# Altium schematic symbol library ACROME_Lib.SchLib: 89 symbols (part 1 of 3)
Pins are listed as number, name and electrical type; pins without a type are passive.

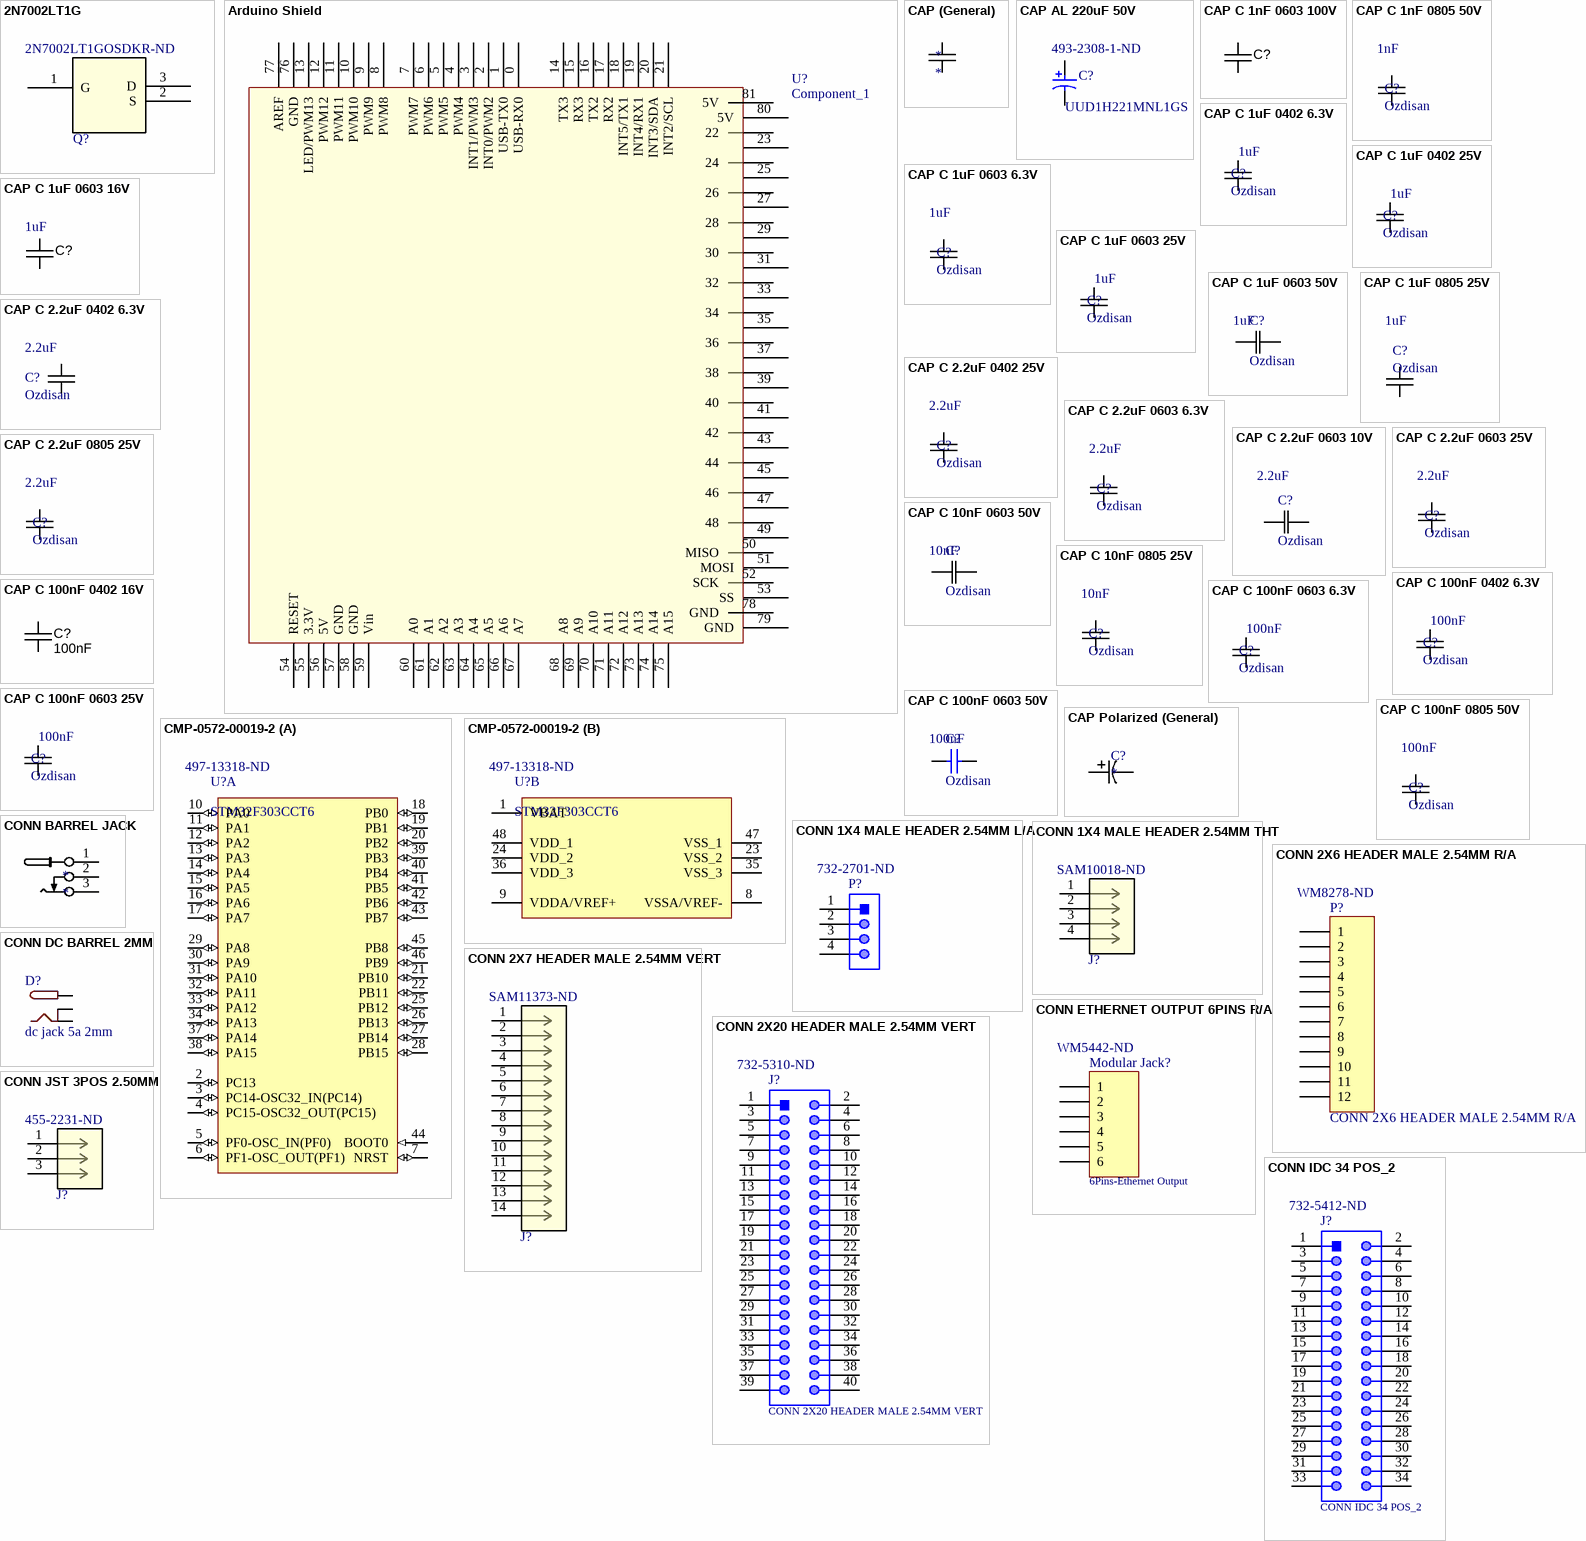
[diagram p0: symbols 2N7002LT1G to CONN JST 3POS 2.50MM]

## 2N7002LT1G
designator Q?  Supplier Part Number 1: 2N7002LT1GOSDKR-ND  (hidden comment: 2N7002LT1G)
Trans MOSFET N-CH 60V 0.115A 3-Pin SOT-23 T/R; Vendor: ON Semiconductor; Built_By: EMA_UL_Team; Type: DEV; Gate to Source Voltage (Vgs): 20V; Continuous Drain Current (ID): 115mA; Turn-Off Delay Time: 40ns; Turn-On Delay Time: 20ns; Rds On Max: 7.5R; Input Capacitance: 50pF; Nominal Vgs: 2.5V; Number of Elements: 1; Max Power Dissipation: 225mW; Element Configuration: Single; Power Dissipation: 300mW; Manufacturer_Part_Number: 2N7002LT1G; Copyright: Copyright (C) 2018 Accelerated Designs. All rights reserved; RefDes: RefDes; Value: Value; Supplier 1: Digi-Key; Manufacturer: ON Semiconductor; Manufacturer Part Number: 2N7002LT1G; RoHS: Yes; Category: MOSFETs; Stock 1: 959799; Pricing 1: 1=0,18000, 10=0,16400, 25=0,15640, 100=0,06880, 250=0,06600, 500=0,05400, 1000=0,03750 (USD); Case/Package: SOT-23-3; Number of Pins: 3; Contact Plating: Tin,Matte; Min Operating Temperature: -55°C; Max Operating Temperature: 150°C; Package Quantity: 1; On-State Resistance: 7.5R; Packaging: Tape and Reel; Drain to Source Voltage (Vdss): 60V; Drain to Source Breakdown Voltage: 60V; Drain to Source Resistance: 7.5R; Threshold Voltage: 2.5V; Voltage Rating (DC): 60V; Current Rating: 115mA; Number of Channels: 1; Length: 3.04mm; Height: 1.01mm; Width: 1.4mm; Radiation Hardening: No; Lead Free: Lead Free; Halogen Free: Halogen Free; REACH SVHC: No SVHC; ComponentLink1URL: https://datasheet.ciiva.com/936/2n7002l-d-936784.pdf?src-supplier=Digi-Key; ComponentLink1Description: https://datasheet.ciiva.com/936/2n7002l-d-936784.pdf?src-supplier=Digi-Key; ComponentLink2URL: https://datasheet.ciiva.com/22749/1747988-22749570.pdf?src-supplier=Element14; ComponentLink2Description: https://datasheet.ciiva.com/22749/1747988-22749570.pdf?src-supplier=Element14; ComponentLink3URL: https://datasheet.ciiva.com/1188/97418-1188470.pdf?src-supplier=Element14; ComponentLink3Description: https://datasheet.ciiva.com/1188/97418-1188470.pdf?src-supplier=Element14; ComponentLink4URL: https://datasheet.ciiva.com/936/2n7002l-d-936786.pdf?src-supplier=Digi-Key; ComponentLink4Description: https://datasheet.ciiva.com/936/2n7002l-d-936786.pdf?src-supplier=Digi-Key; ComponentLink5URL: https://datasheet.ciiva.com/1254/1747988-1254500.pdf?src-supplier=Newark; ComponentLink5Description: https://datasheet.ciiva.com/1254/1747988-1254500.pdf?src-supplier=Newark; ComponentLink6URL: https://datasheet.ciiva.com/936/2n7002l-d-936785.pdf?src-supplier=Digi-Key; ComponentLink6Description: https://datasheet.ciiva.com/936/2n7002l-d-936785.pdf?src-supplier=Digi-Key; ComponentLink7URL: https://datasheet.ciiva.com/24157/2n7002l-d-24157398.pdf?src-supplier=Future+Electronics; ComponentLink7Description: https://datasheet.ciiva.com/24157/2n7002l-d-24157398.pdf?src-supplier=Future+Electronics; ComponentLink8URL: https://datasheet.ciiva.com/1188/97418-1188471.pdf?src-supplier=Element14; ComponentLink8Description: https://datasheet.ciiva.com/1188/97418-1188471.pdf?src-supplier=Element14; ComponentLink9URL: https://datasheet.ciiva.com/8114/2n7002l-d-8114823.pdf?src-supplier=Avnet; ComponentLink9Description: https://datasheet.ciiva.com/8114/2n7002l-d-8114823.pdf?src-supplier=Avnet; ComponentLink10URL: https://datasheet.ciiva.com/3304/2n7002l-d-3304393.pdf?src-supplier=Avnet; ComponentLink10Description: https://datasheet.ciiva.com/3304/2n7002l-d-3304393.pdf?src-supplier=Avnet; ComponentLink11URL: https://datasheet.ciiva.com/26146/2n7002l-d-26146173.pdf?src-supplier=Avnet+Europe; ComponentLink11Description: https://datasheet.ciiva.com/26146/2n7002l-d-26146173.pdf?src-supplier=Avnet+Europe; ComponentLink12URL: https://datasheet.ciiva.com/16542/2n7002l-d-16542607.pdf?src-supplier=Avnet+Asia; ComponentLink12Description: https://datasheet.ciiva.com/16542/2n7002l-d-16542607.pdf?src-supplier=Avnet+Asia
footprint SOT-23
pins: 1 G, 2 S, 3 D

## Arduino Shield
designator U?, comment Component_1
footprint PCBComponent_1 (Footprint not found)
pins: 0 USB-RX0, 1 USB-TX0, 2 INT0/PWM2, 3 INT1/PWM3, 4 PWM4, 5 PWM5, 6 PWM6, 7 PWM7, 8 PWM8, 9 PWM9, 10 PWM10, 11 PWM11, 12 PWM12, 13 LED/PWM13, 14 TX3, 15 RX3, 16 TX2, 17 RX2, 18 INT5/TX1, 19 INT4/RX1, 20 INT3/SDA, 21 INT2/SCL, 22, 23, 24, 25, 26, 27, 28, 29, 30, 31, 32, 33, 34, 35, 36, 37, 38, 39, 40, 41, 42, 43, 44, 45, 46, 47, 48, 49, 50 MISO, 51 MOSI, 52 SCK, 53 SS, 54 RESET, 55 3.3V, 56 5V, 57 GND, 58 GND, 59 Vin, 60 A0, 61 A1, 62 A2, 63 A3, 64 A4, 65 A5, 66 A6, 67 A7, 68 A8, 69 A9, 70 A10, 71 A11, 72 A12, 73 A13, 74 A14, 75 A15, 76 GND, 77 AREF, 78 GND, 79 GND, 80 5V, 81 5V

## CAP (General)
designator *
pins: 1, 2

## CAP AL 220uF 50V
designator C?, comment UUD1H221MNL1GS  Supplier Part Number 1: 493-2308-1-ND
NICHICON   UUD1H221MNL1GS   ALUMINUM ELECTROLYTIC CAPACITOR 220UF 50V 220%, SMD, FULL REEL; Packing: Dia382mm Reel; Endurance Time: 5000 h; Rated Ripple Current (at 100kHz): 670 mA; Tolerance Rated Capacitance: -20 to 20%; Impedance: 0.18 Ohm; Dielectric Material: Aluminium; Tolerance: 20%; Ripple Current: 670mA; Leakage Current: 3uA; Life (Hours): 5000Hour; Dissipation Factor: 0.14%; Lead Diameter: 1.1mm; Rated Capacitance: 220 uF; RoHS: TRUE; ComponentLink2URL: http://products.nichicon.co.jp/en/pdf/XJA043/e-ud.pdf; PartNumber: UUD1H221MNL1GS; ComponentLink3URL: http://products.nichicon.co.jp/en/pdf/XJA043/e-ud.pdf; Mounting Technology: Surface Mount; ComponentLink1Description: Manufacturer URL; ComponentLink3Description: Package Specification; Manufacturer: Nichicon; ComponentLink1URL: http://www.nichicon.co.jp/; Diameter: 10 mm; PackageDescription: 2-Pin Surface Mount Device, Diameter 10 mm, Height 10 mm, Pitch 8 mm; PackageReference: CAPAE-D10H10; ComponentLink2Description: Datasheet; Rated Voltage: 50 V; DatasheetVersion: 08/2012; Length: 10 mm; Supplier 1: Digi-Key; Manufacturer Part Number: UUD1H221MNL1GS; Category: Aluminum Electrolytic Capacitors; Stock 1: 56411; Pricing 1: 1=0,88000, 10=0,67200, 100=0,48090 (USD); Case/Package: Radial; Number of Pins: 2; Min Operating Temperature: -55°C; Max Operating Temperature: 105°C; Capacitance: 220uF; Termination: SMD/SMT; Voltage: 50V; Packaging: Tape and Reel; Voltage Rating: 50V; Ripple Current (AC): 670mA; Package Quantity: 500; Voltage Rating (DC): 50V; Height: 10mm; Height - Seated (Max): 0.394inch; Lead Pitch: 4.5mm; Radiation Hardening: No; Lead Free: Lead Free; REACH SVHC: Unknown; ComponentLink4URL: https://datasheet.ciiva.com/11781/0900766b80fa39e7-11781899.pdf?src-supplier=RSComponents; ComponentLink4Description: https://datasheet.ciiva.com/11781/0900766b80fa39e7-11781899.pdf?src-supplier=RSComponents; ComponentLink5URL: https://datasheet.ciiva.com/98/e-ud-98289.pdf?src-supplier=Digi-Key; ComponentLink5Description: https://datasheet.ciiva.com/98/e-ud-98289.pdf?src-supplier=Digi-Key; ComponentLink6URL: https://datasheet.ciiva.com/98/e-ud-98290.pdf?src-supplier=Digi-Key; ComponentLink6Description: https://datasheet.ciiva.com/98/e-ud-98290.pdf?src-supplier=Digi-Key; ComponentLink7URL: https://datasheet.ciiva.com/98/e-ud-98291.pdf?src-supplier=Digi-Key; ComponentLink7Description: https://datasheet.ciiva.com/98/e-ud-98291.pdf?src-supplier=Digi-Key; ComponentLink8URL: https://datasheet.ciiva.com/5360/e-ud-5360438.pdf?src-supplier=Mouser; ComponentLink8Description: https://datasheet.ciiva.com/5360/e-ud-5360438.pdf?src-supplier=Mouser; ComponentLink9URL: https://datasheet.ciiva.com/16369/e-ud-16369110.pdf?src-supplier=Future+Electronics; ComponentLink9Description: https://datasheet.ciiva.com/16369/e-ud-16369110.pdf?src-supplier=Future+Electronics; ComponentLink10URL: https://datasheet.ciiva.com/11673/e-ud-11673943.pdf?src-supplier=Avnet; ComponentLink10Description: https://datasheet.ciiva.com/11673/e-ud-11673943.pdf?src-supplier=Avnet; ComponentLink11URL: https://datasheet.ciiva.com/7781/66055-7781451.pdf?src-supplier=Element14; ComponentLink11Description: https://datasheet.ciiva.com/7781/66055-7781451.pdf?src-supplier=Element14; ComponentLink12URL: https://datasheet.ciiva.com/17515/e-ud-17515243.pdf?src-supplier=Avnet+Europe; ComponentLink12Description: https://datasheet.ciiva.com/17515/e-ud-17515243.pdf?src-supplier=Avnet+Europe; ComponentLink13URL: https://datasheet.ciiva.com/7781/66055-7781452.pdf?src-supplier=Element14; ComponentLink13Description: https://datasheet.ciiva.com/7781/66055-7781452.pdf?src-supplier=Element14
footprint NIC-CAPA2-10X10_V (Aluminum Electrolytic Capacitor, Diameter 10mm, Height 10.8mm, Pitch 8mm)
pins: 1, 2

## CAP C 1nF 0603 100V
designator C?, comment Ozdisan  (value not drawn)
MLCC (1608) 0603 1nF 100VDC ±10% X7R; Manufacturer 1: SAMSUNG; Manufacturer Part Number 1: CL10B102KC8NNNC; Ratings: 100V; X7R; Material: ceramic; SCDType: spec; Voltage Rating (DC): 100V; Package / Case: 0603 (1608 metric); Tolerance: ±10%; Supplier 1: Ozdisan; Supplier Part Number 1: CL10B102KC8NNNC; Operating Temperature: -55°C ~ 125°C; Size / Dimension: 0.063" L x 0.031" W (1.60mm x 0.80mm); Thickness (Max): 0.035" (0.90mm); ComponentLink1URL: http://search.murata.co.jp/Ceramy/image/img/PDF/ENG/GCM188R72A102KA37.pdf; ComponentLink1Description: http://search.murata.co.jp/Ceramy/image/img/PDF/ENG/GCM188R72A102KA37.pdf; RoHS: Yes; Category: Ceramic Capacitors; Mount: Surface Mount; Case/Package: 0603; Case Code (Metric): 1608; Case Code (Imperial): 0603; Min Operating Temperature: -55°C; Max Operating Temperature: 125°C; Dielectric: X7R; Capacitance: 1nF; Termination: SMD/SMT; Voltage: 100V; Package Quantity: 1; Voltage Rating: 100V; Packaging: Tape and Reel; Length: 1.6mm; Height: 0.8mm; Thickness: 0.035inch; Depth: 0.8mm; Width: 0.031inch; Radiation Hardening: No; REACH SVHC: No SVHC; Lead Free: Lead Free; ComponentLink2URL: https://datasheet.ciiva.com/18183/getdatasheetpartid-178938-18183648.pdf?src-supplier=Verical; ComponentLink2Description: https://datasheet.ciiva.com/18183/getdatasheetpartid-178938-18183648.pdf?src-supplier=Verical; ComponentLink3URL: https://datasheet.ciiva.com/132/product-132641.pdf?src-supplier=Digi-Key; ComponentLink3Description: https://datasheet.ciiva.com/132/product-132641.pdf?src-supplier=Digi-Key; ComponentLink4URL: https://datasheet.ciiva.com/11789/0900766b80ef92d0-11789067.pdf?src-supplier=RSComponents; ComponentLink4Description: https://datasheet.ciiva.com/11789/0900766b80ef92d0-11789067.pdf?src-supplier=RSComponents; ComponentLink5URL: https://datasheet.ciiva.com/132/product-132640.pdf?src-supplier=Digi-Key; ComponentLink5Description: https://datasheet.ciiva.com/132/product-132640.pdf?src-supplier=Digi-Key; ComponentLink6URL: https://datasheet.ciiva.com/17451/product-17451045.pdf?src-supplier=Avnet+Europe; ComponentLink6Description: https://datasheet.ciiva.com/17451/product-17451045.pdf?src-supplier=Avnet+Europe; ComponentLink7URL: https://datasheet.ciiva.com/11621/product-11621655.pdf?src-supplier=Avnet; ComponentLink7Description: https://datasheet.ciiva.com/11621/product-11621655.pdf?src-supplier=Avnet; ComponentLink8URL: https://datasheet.ciiva.com/132/product-132642.pdf?src-supplier=Digi-Key; ComponentLink8Description: https://datasheet.ciiva.com/132/product-132642.pdf?src-supplier=Digi-Key; ComponentLink9Description: OZDISAN-Supplier Link; ComponentLink9URL: https://www.ozdisan.com/passive-components/capacitors/smt-smd-and-mlcc-capacitors/CL10B102KC8NNNC
footprint 0603 CHIP-CAP C
pins: 1, 2

## CAP C 1nF 0805 50V
designator C?, comment Ozdisan  Capacitance: 1nF
MLCC (2012) 0805 1nF 50VDC ±10% X7R /; Manufacturer: Samsung; Manufacturer Part Number: CL21B102KB6WPNC; Voltage Rating: 50V; Supplier 1: Ozdisan; RoHS: Yes; Mount: Surface Mount; Case/Package: 0805; Case Code (Metric): 2012; Case Code (Imperial): 0805; Min Operating Temperature: -55°C; Max Operating Temperature: 125°C; Packaging: Tape and Reel; Features: Soft Termination; Tolerance: 10%; Length: 0.079inch; Width: 0.049inch; Thickness: 0.028inch; Ratings: AEC-Q200; Lead Free: Lead Free; ComponentLink1URL: http://www.samsungsem.com/kr/support/library/product-catalog/mlcc.jsp?src-supplier=Digi-Key; ComponentLink1Description: http://www.samsungsem.com/kr/support/library/product-catalog/mlcc.jsp?src-supplier=Digi-Key; ComponentLink2URL: http://www.samsungsem.com/kr/support/product-search/mlcc/CL21B102KB6WPNC.jsp?src-supplier=Digi-Key; ComponentLink2Description: http://www.samsungsem.com/kr/support/product-search/mlcc/CL21B102KB6WPNC.jsp?src-supplier=Digi-Key; ComponentLink3URL: http://www.samsungsem.com/servlet/FileDownload?type=spec&file=CL21B102KB6WPNC.pdf&src-supplier=Avnet; ComponentLink3Description: http://www.samsungsem.com/servlet/FileDownload?type=spec&file=CL21B102KB6WPNC.pdf&src-supplier=Avnet; Supplier Part Number 1: CL21B102KB6WPNC; ComponentLink4Description: OZDISAN-Supplier Link; ComponentLink4URL: https://www.ozdisan.com/Product/Detail/412405/CL21B102KB6WPNC
footprint 0805 CHIP-CAP C
pins: 1, 2

## CAP C 1uF 0402 6.3V
designator C?, comment Ozdisan  Capacitance: 1uF
MLCC (1005) 0402 1uF 6.3VDC ±10% X5R; Manufacturer Part Number: 0402X105K6R3CT; Voltage Rating: 6.3V; ComponentLink1Description: OZDISAN-Supplier Link; ComponentLink1URL: https://www.ozdisan.com/passive-components/capacitors/smt-smd-and-mlcc-capacitors/0402X105K6R3CT; RoHS: Yes; Case/Package: 0402; Case Code (Imperial): 0402; Case Code (Metric): 1005; Min Operating Temperature: -55°C; Max Operating Temperature: 85°C; Tolerance: 10%; Packaging: Tape and Reel; Dielectric: X5R; Voltage Rating (DC): 6.3V; Length: 1mm; Depth: 0.5mm; Radiation Hardening: No; REACH SVHC: Unknown; Lead Free: Lead Free; ComponentLink2URL: https://datasheet.ciiva.com/26864/getdatasheetpartid-415704-26864495.pdf?src-supplier=Verical; ComponentLink2Description: https://datasheet.ciiva.com/26864/getdatasheetpartid-415704-26864495.pdf?src-supplier=Verical; Manufacturer: Ozdisan
footprint 0402 CHIP-CAP C
pins: 1, 2

## CAP C 1uF 0402 25V
designator C?, comment Ozdisan  Capacitance: 1uF
MLCC (1005) 0402 1uF 25VDC ±10% X5R; Manufacturer Part Number: CL05A105KA5NQNC; Tolerance: 0.1%; Voltage Rating: 25V; Max Power Dissipation: 63mW; Temperature Coefficient: 25ppm/°C; Resistance: 33kR; ComponentLink1Description: OZDISAN-Supplier Link; ComponentLink1URL: https://www.ozdisan.com/passive-components/capacitors/smt-smd-and-mlcc-capacitors/CL05A105KA5NQNC; Manufacturer: Ozdisan; RoHS: Yes; Mount: Surface Mount; Case/Package: 0402; Number of Pins: 2; Case Code (Metric): 1005; Contact Plating: Tin; Min Operating Temperature: -55°C; Max Operating Temperature: 155°C; Packaging: Tape and Reel; Termination: SMD/SMT; Composition: Metal Film,Thin Film; Number of Terminations: 2; Military Standard: Not; Voltage Rating (DC): 25V; Power Rating: 63mW; Length: 1mm; Height: 0.35mm; Depth: 0.5mm; Width: 0.5mm; Radiation Hardening: No; Lead Free: Lead Free; REACH SVHC: Unknown; ComponentLink2URL: https://datasheet.ciiva.com/11810/0900766b80beefcc-11810132.pdf?src-supplier=RSComponents; ComponentLink2Description: https://datasheet.ciiva.com/11810/0900766b80beefcc-11810132.pdf?src-supplier=RSComponents; ComponentLink3URL: https://datasheet.ciiva.com/22640/328837-22640614.pdf?src-supplier=Farnell; ComponentLink3Description: https://datasheet.ciiva.com/22640/328837-22640614.pdf?src-supplier=Farnell; ComponentLink4URL: https://datasheet.ciiva.com/5838/328837-5838025.pdf?src-supplier=Farnell; ComponentLink4Description: https://datasheet.ciiva.com/5838/328837-5838025.pdf?src-supplier=Farnell; ComponentLink5URL: https://datasheet.ciiva.com/25720/1776116-25720572.pdf?src-supplier=Farnell; ComponentLink5Description: https://datasheet.ciiva.com/25720/1776116-25720572.pdf?src-supplier=Farnell; ComponentLink6URL: https://datasheet.ciiva.com/28682/1776116-28682140.pdf?src-supplier=Element14; ComponentLink6Description: https://datasheet.ciiva.com/28682/1776116-28682140.pdf?src-supplier=Element14; ComponentLink7URL: https://datasheet.ciiva.com/30186/54aoa0000ce26-30186989.pdf?src-supplier=Onlinecomponents.com; ComponentLink7Description: https://datasheet.ciiva.com/30186/54aoa0000ce26-30186989.pdf?src-supplier=Onlinecomponents.com; Case Code (Imperial): 0402
footprint 0402 CHIP-CAP C
pins: 1, 2

## CAP C 1uF 0603 6.3V
designator C?, comment Ozdisan  Capacitance: 1uF
MLCC (1608) 0603 1uF 6.3VDC ±10% X5R; Manufacturer: Samsung; Manufacturer Part Number: CL10A105KQ8NNNC; Voltage Rating (DC): 6.3V; ComponentLink1Description: OZDISAN- Supplier Link; ComponentLink1URL: https://www.ozdisan.com/passive-components/capacitors/smt-smd-and-mlcc-capacitors/CL10A105KQ8NNNC; Supplier 1: Ozdisan; RoHS: Yes; Mount: Surface Mount; Case/Package: 0603; Case Code (Imperial): 0603; Case Code (Metric): 1608; Min Operating Temperature: -55°C; Max Operating Temperature: 85°C; Dielectric: X5R; Tolerance: 10%; Packaging: Tape and Reel; Voltage Rating: 6.3V; Length: 1.6mm; Height: 0.8mm; Thickness: 0.035inch; Depth: 0.8mm; Width: 0.031inch; Radiation Hardening: No; Lead Free: Lead Free; ComponentLink2URL: https://datasheet.ciiva.com/26838/getdatasheetpartid-355285-26838337.pdf?src-supplier=Verical; ComponentLink2Description: https://datasheet.ciiva.com/26838/getdatasheetpartid-355285-26838337.pdf?src-supplier=Verical; ComponentLink3URL: https://datasheet.ciiva.com/25801/cl10a105kq8nnnc-25801975.pdf?src-supplier=Digi-Key; ComponentLink3Description: https://datasheet.ciiva.com/25801/cl10a105kq8nnnc-25801975.pdf?src-supplier=Digi-Key; ComponentLink4URL: https://datasheet.ciiva.com/16199/cl10a105ko8nnnc-16199274.pdf?src-supplier=Future+Electronics; ComponentLink4Description: https://datasheet.ciiva.com/16199/cl10a105ko8nnnc-16199274.pdf?src-supplier=Future+Electronics; Supplier Part Number 1: CL10A105KQ8NNNC
footprint 0603 CHIP-CAP C
pins: 1, 2

## CAP C 1uF 0603 16V
designator C?, comment Capacitance: 1uF  (hidden comment: Ozdisan)
MLCC (1608) 0603 1uF 16VDC ±10% X7R; Manufacturer 1: TDK Corporation; Manufacturer Part Number 1: C1608X7R1C105K080AC; Manufacturer: TDK; Ratings: 16V; X7R; Material: ceramic; SCDType: spec; Voltage: 16V; Value: 1µ; Package / Case: 0603 (1608 metric); Tolerance: ±10%; Supplier 1: Ozdisan; Supplier Part Number 1: C1608X7R1C105K080AC; ComponentLink1URL: http://product.tdk.com/capacitor/mlcc/en/documents/mlcc_commercial_general_en.pdf; ComponentLink1Description: http://product.tdk.com/capacitor/mlcc/en/documents/mlcc_commercial_general_en.pdf; ComponentLink2Description: OZDISAN-Supplier Link; ComponentLink2URL: https://www.ozdisan.com/Product/Detail/600193/C1608X7R1C105K080AC; RoHS: Yes; Mount: Surface Mount; Case/Package: 0603; Weight: 7.1E-05oz; Dielectric Material: Ceramic; Case Code (Metric): 1608; Case Code (Imperial): 0603; Min Operating Temperature: -55°C; Max Operating Temperature: 125°C; Dielectric: X7R; Termination: SMD/SMT; Voltage Rating: 16V; Packaging: Tape and Reel; Package Quantity: 1; Voltage Rating (DC): 16V; Composition: Ceramic; Length: 1.6mm; Height: 0.8mm; Depth: 0.8mm; Thickness: 0.037inch; Width: 0.031inch; Radiation Hardening: No; REACH SVHC: No SVHC; Lead Free: Lead Free; ComponentLink3URL: https://datasheet.ciiva.com/11788/0900766b80c1bb00-11788075.pdf?src-supplier=RSComponents; ComponentLink3Description: https://datasheet.ciiva.com/11788/0900766b80c1bb00-11788075.pdf?src-supplier=RSComponents; ComponentLink4URL: https://datasheet.ciiva.com/22648/1796654-22648704.pdf?src-supplier=Element14; ComponentLink4Description: https://datasheet.ciiva.com/22648/1796654-22648704.pdf?src-supplier=Element14; ComponentLink5URL: https://datasheet.ciiva.com/26285/3025c1608x7r1c105k080ac-26285242.pdf?src-supplier=Onlinecomponents.com; ComponentLink5Description: https://datasheet.ciiva.com/26285/3025c1608x7r1c105k080ac-26285242.pdf?src-supplier=Onlinecomponents.com; ComponentLink6URL: https://datasheet.ciiva.com/15192/getdatasheetpartid-715881-15192029.pdf?src-supplier=Verical; ComponentLink6Description: https://datasheet.ciiva.com/15192/getdatasheetpartid-715881-15192029.pdf?src-supplier=Verical; ComponentLink7URL: https://datasheet.ciiva.com/17487/e412-c-17487343.pdf?src-supplier=Avnet+Europe; ComponentLink7Description: https://datasheet.ciiva.com/17487/e412-c-17487343.pdf?src-supplier=Avnet+Europe; ComponentLink8URL: https://datasheet.ciiva.com/22694/1796654-22694127.pdf?src-supplier=Element14; ComponentLink8Description: https://datasheet.ciiva.com/22694/1796654-22694127.pdf?src-supplier=Element14; ComponentLink9URL: https://datasheet.ciiva.com/6250/tdkmlcccaprange-6250871.pdf?src-supplier=Digi-Key; ComponentLink9Description: https://datasheet.ciiva.com/6250/tdkmlcccaprange-6250871.pdf?src-supplier=Digi-Key; ComponentLink10URL: https://datasheet.ciiva.com/16199/e412-c-16199815.pdf?src-supplier=Future+Electronics; ComponentLink10Description: https://datasheet.ciiva.com/16199/e412-c-16199815.pdf?src-supplier=Future+Electronics; ComponentLink11URL: https://datasheet.ciiva.com/6156/1571323-6156168.pdf?src-supplier=Farnell; ComponentLink11Description: https://datasheet.ciiva.com/6156/1571323-6156168.pdf?src-supplier=Farnell; ComponentLink12URL: https://datasheet.ciiva.com/48671/e412-c-48671305.pdf?src-supplier=Avnet; ComponentLink12Description: https://datasheet.ciiva.com/48671/e412-c-48671305.pdf?src-supplier=Avnet; ComponentLink13URL: https://datasheet.ciiva.com/22749/1744655-22749595.pdf?src-supplier=Element14; ComponentLink13Description: https://datasheet.ciiva.com/22749/1744655-22749595.pdf?src-supplier=Element14
footprint 0603 CHIP-CAP C
pins: 1, 2

## CAP C 1uF 0603 25V
designator C?, comment Ozdisan  Capacitance: 1uF
MLCC (1608) 0603 1uF 25VDC ±10% X5R; Manufacturer Part Number: CL10A105KA8NNNC; Material: Ceramic; Voltage: 25V; ComponentLink1Description: OZDISAN-Supplier Link; ComponentLink1URL: https://www.ozdisan.com/passive-components/capacitors/smt-smd-and-mlcc-capacitors/CL10A105KA8NNNC; Manufacturer: Ozdisan; RoHS: Yes; Mount: Surface Mount; Case/Package: 0603; Case Code (Imperial): 0603; Contact Plating: Tin; Case Code (Metric): 1608; Min Operating Temperature: -55°C; Max Operating Temperature: 85°C; Tolerance: 10%; Dielectric: X5R; Voltage Rating (DC): 25V; Packaging: Tape and Reel; Package Quantity: 1; Voltage Rating: 25V; Length: 1.6mm; Height: 0.8mm; Depth: 0.8mm; Thickness: 0.035inch; Width: 0.031inch; Radiation Hardening: No; Lead Free: Lead Free; ComponentLink2URL: https://datasheet.ciiva.com/25801/cl10a105ka8nnnc-25801364.pdf?src-supplier=Digi-Key; ComponentLink2Description: https://datasheet.ciiva.com/25801/cl10a105ka8nnnc-25801364.pdf?src-supplier=Digi-Key; ComponentLink3URL: https://datasheet.ciiva.com/26838/getdatasheetpartid-357530-26838332.pdf?src-supplier=Verical; ComponentLink3Description: https://datasheet.ciiva.com/26838/getdatasheetpartid-357530-26838332.pdf?src-supplier=Verical; ComponentLink4URL: https://datasheet.ciiva.com/29198/458162-da-01-en-vs-kondensator-0603-29198475.pdf?src-supplier=Conrad; ComponentLink4Description: https://datasheet.ciiva.com/29198/458162-da-01-en-vs-kondensator-0603-29198475.pdf?src-supplier=Conrad
footprint 0603 CHIP-CAP C
pins: 1, 2

## CAP C 1uF 0603 50V
designator C?, comment Ozdisan  Capacitance: 1uF
MLCC (1608) 0603 1uF 50VDC ±10% X5R; Manufacturer: SAMSUNG; Manufacturer Part Number: CL10A105KB8NNNC; Dielectric Material: Ceramic; Voltage Rating: 50V; Supplier 1: Ozdisan; Mount: Surface Mount; Case/Package: 0603; Number of Pins: 2; Weight: 7.1E-05oz; Case Code (Metric): 1608; Case Code (Imperial): 0603; Min Operating Temperature: -55°C; Max Operating Temperature: 85°C; Tolerance: 10%; Packaging: Tape and Reel; Package Quantity: 1; Voltage Rating (DC): 50V; Dielectric: X5R; Termination: SMD/SMT; Voltage: 50V; Composition: Ceramic; Length: 1.6mm; Height: 0.8mm; Width: 0.031inch; Thickness: 0.035inch; Depth: 0.8mm; Radiation Hardening: No; REACH SVHC: No SVHC; Lead Free: Lead Free; ComponentLink1URL: http://www.tdk.co.jp/tefe02/e412_c.pdf?src-supplier=Avnet+Europe; ComponentLink1Description: http://www.tdk.co.jp/tefe02/e412_c.pdf?src-supplier=Avnet+Europe; ComponentLink2URL: https://product.tdk.com/info/en/catalog/spec/mlccspec_commercial_general_midvoltage_en.pdf?src-supplier=Digi-Key; ComponentLink2Description: https://product.tdk.com/info/en/catalog/spec/mlccspec_commercial_general_midvoltage_en.pdf?src-supplier=Digi-Key; ComponentLink3URL: http://www.farnell.com/datasheets/1913358.pdf?src-supplier=Element14; ComponentLink3Description: http://www.farnell.com/datasheets/1913358.pdf?src-supplier=Element14; Supplier Part Number 1: CL10A105KB8NNNC; ComponentLink4Description: OZDISAN-Supplier Link; ComponentLink4URL: https://www.ozdisan.com/Product/Detail/366016/CL10A105KB8NNNC; ComponentLink5Description: OZDISAN-Supplier Link; ComponentLink5URL: https://www.ozdisan.com/Product/Detail/366016/CL10A105KB8NNNC
footprint 0603 CHIP-CAP C
pins: 1, 2

## CAP C 1uF 0805 25V
designator C?, comment Ozdisan  Capacitance: 1uF
MLCC (2012) 0805 1uF 25VDC ±10% X7R; Manufacturer: Samsung; Manufacturer Part Number: CL21B105KAFNNNE; Voltage Rating (DC): 25V; Supplier 1: Ozdisan; RoHS: Yes; Mount: Surface Mount; Case/Package: 0805; Case Code (Imperial): 0805; Case Code (Metric): 2012; Contact Plating: Tin; Min Operating Temperature: -55°C; Max Operating Temperature: 125°C; Tolerance: 10%; Dielectric: X7R; Voltage: 25V; Packaging: Tape and Reel; Voltage Rating: 25V; Package Quantity: 1; Length: 2mm; Height: 1.25mm; Depth: 1.25mm; Width: 0.049inch; Thickness: 0.053inch; Radiation Hardening: No; Lead Free: Lead Free; ComponentLink1URL: https://datasheet.ciiva.com/25800/cl21b105kafnnne-25800163.pdf?src-supplier=Digi-Key; ComponentLink1Description: https://datasheet.ciiva.com/25800/cl21b105kafnnne-25800163.pdf?src-supplier=Digi-Key; ComponentLink2URL: https://datasheet.ciiva.com/15195/getdatasheetpartid-355205-15195880.pdf?src-supplier=Verical; ComponentLink2Description: https://datasheet.ciiva.com/15195/getdatasheetpartid-355205-15195880.pdf?src-supplier=Verical; ComponentLink3Description: OZDISAN-Supplier Link; ComponentLink3URL: https://www.ozdisan.com/Product/Detail/36165/CL21B105KAFNNNE; Supplier Part Number 1: CL21B105KAFNNNE
footprint 0805 CHIP-CAP C
pins: 1, 2

## CAP C 2.2uF 0402 6.3V
designator C?, comment Ozdisan  Capacitance: 2.2uF
MLCC (1005) 0402 2.2uF 6.3VDC ±10% X5R; Manufacturer: Samsung; Manufacturer Part Number: CL05A225KQ5NSNC; Voltage Rating: 6.3V; Supplier 1: Ozdisan; RoHS: Yes; Mount: Surface Mount; Case/Package: 0402; Case Code (Imperial): 0402; Case Code (Metric): 1005; Min Operating Temperature: -55°C; Max Operating Temperature: 85°C; Tolerance: 10%; Dielectric: X5R; Package Quantity: 1; Packaging: Tape and Reel; Voltage: 6.3V; Length: 1mm; Height: 0.5mm; Thickness: 0.022inch; Depth: 0.5mm; Width: 0.02inch; Radiation Hardening: No; ComponentLink1URL: https://datasheet.ciiva.com/25796/cl05a225kq5nsnc-25796899.pdf?src-supplier=Digi-Key; ComponentLink1Description: https://datasheet.ciiva.com/25796/cl05a225kq5nsnc-25796899.pdf?src-supplier=Digi-Key; Supplier Part Number 1: CL05A225KQ5NSNC; ComponentLink2Description: OZDISAN-Supplier Link; ComponentLink2URL: https://www.ozdisan.com/passive-components/capacitors/smt-smd-and-mlcc-capacitors/CL05A225KQ5NSNC
footprint 0402 CHIP-CAP C
pins: 1, 2

## CAP C 2.2uF 0402 25V
designator C?, comment Ozdisan  Capacitance: 2.2uF
MLCC (1005) 0402 2.2uF 25VDC ±20% X5R; Manufacturer: Samsung; Manufacturer Part Number: CL05A225MA5NUNC; Voltage Rating: 25V; Supplier 1: Ozdisan; RoHS: Yes; Mount: Surface Mount; Case/Package: 0402; Case Code (Metric): 1005; Case Code (Imperial): 0402; Min Operating Temperature: -55°C; Max Operating Temperature: 85°C; Packaging: Cut Tape; Tolerance: 20%; Length: 0.039inch; Width: 0.02inch; Thickness: 0.022inch; Lead Free: Lead Free; ComponentLink1URL: https://datasheet.ciiva.com/25711/cl05a225ma5nunc-25711169.pdf?src-supplier=Digi-Key; ComponentLink1Description: https://datasheet.ciiva.com/25711/cl05a225ma5nunc-25711169.pdf?src-supplier=Digi-Key; ComponentLink2Description: OZDISAN-Supplier Link; ComponentLink2URL: https://www.ozdisan.com/passive-components/capacitors/smt-smd-and-mlcc-capacitors/CL05A225MA5NUNC; Supplier Part Number 1: CL05A225MA5NUNC
footprint 0402 CHIP-CAP C
pins: 1, 2

## CAP C 2.2uF 0603 6.3V
designator C?, comment Ozdisan  Capacitance: 2.2uF
MLCC (1608) 0603 2.2uF 6.3V 6 10% X5R; Manufacturer: Samsung; Manufacturer Part Number: CL10A225KQ8NNNC; Supplier 1: Ozdisan; RoHS: Yes; Mount: Surface Mount; Case/Package: 0603; Case Code (Imperial): 0603; Case Code (Metric): 1608; Contact Plating: Tin; Min Operating Temperature: -55°C; Max Operating Temperature: 85°C; Tolerance: 10%; Dielectric: X5R; Packaging: Tape and Reel; Voltage Rating: 6.3V; Package Quantity: 1; Voltage Rating (DC): 6.3V; Voltage: 6.3V; Length: 1.6mm; Height: 0.8mm; Thickness: 0.035inch; Depth: 0.8mm; Width: 0.031inch; Radiation Hardening: No; Lead Free: Lead Free; ComponentLink1URL: https://datasheet.ciiva.com/15195/getdatasheetpartid-358618-15195712.pdf?src-supplier=Verical; ComponentLink1Description: https://datasheet.ciiva.com/15195/getdatasheetpartid-358618-15195712.pdf?src-supplier=Verical; ComponentLink2URL: https://datasheet.ciiva.com/16199/cl10a225kq8nnnc-16199203.pdf?src-supplier=Future+Electronics; ComponentLink2Description: https://datasheet.ciiva.com/16199/cl10a225kq8nnnc-16199203.pdf?src-supplier=Future+Electronics; Supplier Part Number 1: CL10A225KQ8NNNC; ComponentLink3Description: OZDISAN -Supplier Link; ComponentLink3URL: https://www.ozdisan.com/passive-components/capacitors/smt-smd-and-mlcc-capacitors/CL10A225KQ8NNNC
footprint 0603 CHIP-CAP C
pins: 1, 2

## CAP C 2.2uF 0603 10V
designator C?, comment Ozdisan  Capacitance: 2.2uF
MLCC (1608) 0603 2.2uF 10VDC ±10% X7R; Manufacturer: SAMSUNG; Manufacturer Part Number: CL10B225KP8NNNC; Material: Ceramic; Voltage Rating: 10V; Supplier 1: Ozdisan; Mount: Surface Mount; Case/Package: 0603; Number of Pins: 2; Weight: 7.1E-05oz; Case Code (Metric): 1608; Case Code (Imperial): 0603; Min Operating Temperature: -55°C; Max Operating Temperature: 125°C; Tolerance: 10%; Packaging: Cut Tape; Voltage Rating (DC): 10V; Dielectric: X7R; Termination: SMD/SMT; Voltage: 10V; Length: 1.6mm; Height: 0.8mm; Width: 0.031inch; Thickness: 0.035inch; Depth: 0.8mm; REACH SVHC: No SVHC; Lead Free: Lead Free; ComponentLink1URL: https://www.murata.com/~/media/webrenewal/support/library/catalog/products/capacitor/mlcc/c02e.ashx?la=en-us&src-supplier=Digi-Key; ComponentLink1Description: https://www.murata.com/~/media/webrenewal/support/library/catalog/products/capacitor/mlcc/c02e.ashx?la=en-us&src-supplier=Digi-Key; ComponentLink2URL: http://components.arrow.com/part/dataview/43432898S8888102N2606?src-supplier=Arrow; ComponentLink2Description: http://components.arrow.com/part/dataview/43432898S8888102N2606?src-supplier=Arrow; ComponentLink3URL: http://www.farnell.com/datasheets/1697709.pdf?src-supplier=Element14; ComponentLink3Description: http://www.farnell.com/datasheets/1697709.pdf?src-supplier=Element14; ComponentLink4URL: http://psearch.murata.com/capacitor/product/GRM188R71A225KE15%23.pdf?src-supplier=Future+Electronics; ComponentLink4Description: http://psearch.murata.com/capacitor/product/GRM188R71A225KE15%23.pdf?src-supplier=Future+Electronics; ComponentLink5URL: http://uk.rs-online.com/webdocs/1423/0900766b81423d14.pdf?src-supplier=RSComponents; ComponentLink5Description: http://uk.rs-online.com/webdocs/1423/0900766b81423d14.pdf?src-supplier=RSComponents; ComponentLink6URL: http://www.produktinfo.conrad.com/datenblaetter/450000-474999/454488-da-01-en-VS_KONDENSATOR_0603.pdf?src-supplier=Conrad; ComponentLink6Description: http://www.produktinfo.conrad.com/datenblaetter/450000-474999/454488-da-01-en-VS_KONDENSATOR_0603.pdf?src-supplier=Conrad; Supplier Part Number 1: CL10B225KP8NNNC; ComponentLink7Description: OZDISAN-Supplier Link; ComponentLink7URL: https://www.ozdisan.com/passive-components/capacitors/smt-smd-and-mlcc-capacitors/CL10B225KP8NNNC; ComponentLink8Description: OZDISAN-Supplier Link; ComponentLink8URL: https://www.ozdisan.com/passive-components/capacitors/smt-smd-and-mlcc-capacitors/CL10B225KP8NNNC
footprint 0603 CHIP-CAP C
pins: 1, 2

## CAP C 2.2uF 0603 25V
designator C?, comment Ozdisan  Capacitance: 2.2uF
MLCC (1608) 0603 2.2uF 25VDC ±10% X5R; Manufacturer: Samsung; Manufacturer Part Number: CL10A225KA8NNNC; Voltage Rating (DC): 25V; Supplier 1: Ozdisan; RoHS: Yes; Mount: Surface Mount; Case/Package: 0603; Case Code (Metric): 1608; Case Code (Imperial): 0603; Min Operating Temperature: -55°C; Max Operating Temperature: 85°C; Dielectric: X5R; Tolerance: 10%; Packaging: Tape and Reel; Package Quantity: 1; Voltage Rating: 25V; Length: 1.6mm; Height: 0.8mm; Thickness: 0.035inch; Depth: 0.8mm; Width: 0.031inch; Radiation Hardening: No; Lead Free: Lead Free; ComponentLink1URL: https://datasheet.ciiva.com/25797/cl10a225ka8nnnc-25797781.pdf?src-supplier=Digi-Key; ComponentLink1Description: https://datasheet.ciiva.com/25797/cl10a225ka8nnnc-25797781.pdf?src-supplier=Digi-Key; ComponentLink2Description: OZDISAN- Supplier Link; ComponentLink2URL: https://www.ozdisan.com/passive-components/capacitors/smt-smd-and-mlcc-capacitors/CL10A225KA8NNNC; Supplier Part Number 1: CL10A225KA8NNNC
footprint 0603 CHIP-CAP C
pins: 1, 2

## CAP C 2.2uF 0805 25V
designator C?, comment Ozdisan  Capacitance: 2.2uF
MLCC (2012) 0805 2.2uF 25VDC ±10% X7R; Manufacturer: Samsung; Manufacturer Part Number: CL21B225KAFNNNE; Voltage Rating: 25V; ComponentLink1Description: OZDISAN-Supplier Link; ComponentLink1URL: https://www.ozdisan.com/Product/Detail/347149/CL21B225KAFNNNE; Supplier 1: Ozdisan; RoHS: Yes; Mount: Surface Mount; Case/Package: 0805; Contact Plating: Tin; Case Code (Metric): 2012; Case Code (Imperial): 0805; Min Operating Temperature: -55°C; Max Operating Temperature: 125°C; Dielectric: X7R; Tolerance: 10%; Packaging: Tape and Reel; Voltage Rating (DC): 25V; Length: 2mm; Height: 1.25mm; Width: 0.049inch; Thickness: 0.053inch; Depth: 1.25mm; Radiation Hardening: No; Lead Free: Lead Free; ComponentLink2URL: https://datasheet.ciiva.com/25710/cl21b225kafnnne-25710688.pdf?src-supplier=Digi-Key; ComponentLink2Description: https://datasheet.ciiva.com/25710/cl21b225kafnnne-25710688.pdf?src-supplier=Digi-Key; ComponentLink3URL: https://datasheet.ciiva.com/16437/cl21b225kafnnne-16437267.pdf?src-supplier=Future+Electronics; ComponentLink3Description: https://datasheet.ciiva.com/16437/cl21b225kafnnne-16437267.pdf?src-supplier=Future+Electronics; Supplier Part Number 1: CL21B225KAFNNNE
footprint 0805 CHIP-CAP C
pins: 1, 2

## CAP C 10nF 0603 50V
designator C?, comment Ozdisan  Capacitance: 10nF
MLCC (1608) 0603 10nF 50VDC ±10% X7R; Manufacturer: Murata; Manufacturer Part Number: GRM188R71H103KA01D; Dielectric Material: Ceramic; Voltage Rating: 50V; Insulation Resistance: 10GR; Supplier 1: Ozdisan; Mount: Surface Mount; Case/Package: 0603; Number of Pins: 2; Case Code (Metric): 1608; Case Code (Imperial): 0603; Material: Ceramic; Min Operating Temperature: -55°C; Max Operating Temperature: 125°C; Package Quantity: 1; Tolerance: 10%; Packaging: Tape and Reel; Voltage Rating (DC): 50V; Dielectric: X7R; Termination: SMD/SMT; Voltage: 50V; Length: 1.6mm; Height: 0.8mm; Width: 0.031inch; Thickness: 0.035inch; Depth: 0.8mm; REACH SVHC: Unknown; Lead Free: Lead Free; ComponentLink1URL: https://www.murata.com/~/media/webrenewal/support/library/catalog/products/capacitor/mlcc/c02e.ashx?la=en-us&src-supplier=Digi-Key; ComponentLink1Description: https://www.murata.com/~/media/webrenewal/support/library/catalog/products/capacitor/mlcc/c02e.ashx?la=en-us&src-supplier=Digi-Key; ComponentLink2URL: http://uk.rs-online.com/webdocs/0030/0900766b8003061f.pdf?src-supplier=RSComponents; ComponentLink2Description: http://uk.rs-online.com/webdocs/0030/0900766b8003061f.pdf?src-supplier=RSComponents; ComponentLink3URL: http://www.farnell.com/datasheets/4360.pdf?src-supplier=Element14; ComponentLink3Description: http://www.farnell.com/datasheets/4360.pdf?src-supplier=Element14; ComponentLink4URL: http://www.farnell.com/datasheets/2047844.pdf?src-supplier=Element14; ComponentLink4Description: http://www.farnell.com/datasheets/2047844.pdf?src-supplier=Element14; ComponentLink5URL: https://www.distrelec.biz/Web/Downloads/_t/ds/murata_MLCC_eng_tds.pdf?mime=application%2Fpdf&src-supplier=Distrelec; ComponentLink5Description: https://www.distrelec.biz/Web/Downloads/_t/ds/murata_MLCC_eng_tds.pdf?mime=application%2Fpdf&src-supplier=Distrelec; ComponentLink6URL: https://produktinfo.conrad.com/datenblaetter/450000-474999/451715-da-01-en-VS_KONDENSATOR_0603.pdf?src-supplier=Conrad; ComponentLink6Description: https://produktinfo.conrad.com/datenblaetter/450000-474999/451715-da-01-en-VS_KONDENSATOR_0603.pdf?src-supplier=Conrad; Supplier Part Number 1: GRM188R71H103KA01D; ComponentLink7Description: OZDISAN-Supplier Link; ComponentLink7URL: https://www.ozdisan.com/Product/Detail/494623/GRM188R71H103KA01D
footprint 0603 CHIP-CAP C
pins: 1, 2

## CAP C 10nF 0805 25V
designator C?, comment Ozdisan  Capacitance: 10nF
MLCC (2012) 0805 10nF 25VDC ±10% X7R; Manufacturer: Samsung; Manufacturer Part Number: CL21B103KAANNNC; Voltage Rating: 25V; ComponentLink1Description: OZDISAN-Supplier Link; ComponentLink1URL: https://www.ozdisan.com/Product/Detail/522760/CL21B103KAANNNC; Supplier 1: Ozdisan; RoHS: Yes; Mount: Surface Mount; Case/Package: 0805; Case Code (Imperial): 0805; Case Code (Metric): 2012; Min Operating Temperature: -55°C; Max Operating Temperature: 125°C; Tolerance: 10%; Dielectric: X7R; Package Quantity: 1; Packaging: Tape and Reel; Length: 2mm; Height: 0.65mm; Depth: 1.25mm; Thickness: 0.03inch; Width: 0.049inch; Radiation Hardening: No; ComponentLink2URL: https://datasheet.ciiva.com/25781/cl21b103kaannnc-25781200.pdf?src-supplier=Digi-Key; ComponentLink2Description: https://datasheet.ciiva.com/25781/cl21b103kaannnc-25781200.pdf?src-supplier=Digi-Key; ComponentLink3URL: https://datasheet.ciiva.com/16199/cl05b104kq5nnnc-16199720.pdf?src-supplier=Future+Electronics; ComponentLink3Description: https://datasheet.ciiva.com/16199/cl05b104kq5nnnc-16199720.pdf?src-supplier=Future+Electronics; Supplier Part Number 1: CL21B103KAANNNC
footprint 0805 CHIP-CAP C
pins: 1, 2

## CAP C 100nF 0402 6.3V
designator C?, comment Ozdisan  Capacitance: 100nF
MLCC (0402) 01005 100nF 6.3VDC ±10% X5R; Manufacturer Part Number: CL02A104KQ2NNNC; Voltage Rating: 6.3V; ComponentLink1Description: OZDISAN-Supplier Link; ComponentLink1URL: https://www.ozdisan.com/passive-components/capacitors/smt-smd-and-mlcc-capacitors/CL02A104KQ2NNNC; Manufacturer: Ozdisan; RoHS: Yes; Mount: Surface Mount; Case/Package: 0402; Case Code (Imperial): 1005; Case Code (Metric): 0402; Min Operating Temperature: -55°C; Max Operating Temperature: 85°C; Dielectric: X5R; Package Quantity: 1; Packaging: Tape and Reel; Tolerance: 10%; Length: 0.016inch; Height: 0.2mm; Width: 0.008inch; Thickness: 0.009inch; Depth: 0.2mm; Radiation Hardening: No; Lead Free: Lead Free; ComponentLink2URL: https://datasheet.ciiva.com/25730/cl02a104kq2nnnc-25730757.pdf?src-supplier=Digi-Key; ComponentLink2Description: https://datasheet.ciiva.com/25730/cl02a104kq2nnnc-25730757.pdf?src-supplier=Digi-Key
footprint 0402 CHIP-CAP C
pins: 1, 2

## CAP C 100nF 0402 16V
designator C?, comment value 100nF  (hidden comment: Ozdisan)
MLCC (1005) 0402 100nF 16VDC ±10% X5R; Manufacturer 1: SAMSUNG; Manufacturer Part Number 1: CL05A104KO5NNNC; Ratings: 16V; X5R; SCDType: spec; Tolerance: ±10%; Operating Temperature: -55°C ~ 125°C; Package / Case: 0402 (1005 Metric); Size / Dimension: 0.039" L x 0.020" W (1.00mm x 0.50mm); Supplier 1: Ozdisan; Supplier Part Number 1: CL05A104KO5NNNC; ComponentLink1URL: http://www.avx.com/docs/Catalogs/cx5r.pdf; ComponentLink1Description: http://www.avx.com/docs/Catalogs/cx5r.pdf; ComponentLink2URL: http://www.yageo.com/documents/recent/UPY-GPHC_X5R_4V-to-50V_12.pdf; ComponentLink2Description: http://www.yageo.com/documents/recent/UPY-GPHC_X5R_4V-to-50V_12.pdf; ComponentLink3Description: OZDISAN-Supplier Link; ComponentLink3URL: https://www.ozdisan.com/Product/Detail/521855/CL05A104KO5NNNC; ComponentLink4Description: OZDISAN-Supplier Link; ComponentLink4URL: https://www.ozdisan.com/Product/Detail/521855/CL05A104KO5NNNC
footprint 0402 CHIP-CAP C
pins: 1, 2

## CAP C 100nF 0603 6.3V
designator C?, comment Ozdisan  Capacitance: 100nF
MLCC (0603) 0201 100nF 6.3VDC ±10% X5R; Manufacturer Part Number: CL03A104KQ3NNNC; Voltage Rating: 6.3V; ComponentLink1Description: OZDISAN-Supplier Link; ComponentLink1URL: https://www.ozdisan.com/passive-components/capacitors/smt-smd-and-mlcc-capacitors/CL03A104KQ3NNNC; Manufacturer: Ozdisan; RoHS: Yes; Mount: Surface Mount; Case/Package: 0201; Case Code (Imperial): 0201; Case Code (Metric): 0603; Contact Plating: Tin; Min Operating Temperature: -55°C; Max Operating Temperature: 85°C; Dielectric: X5R; Tolerance: 10%; Package Quantity: 1; Packaging: Tape and Reel; Voltage: 6.3V; Voltage Rating (DC): 6.3V; Length: 0.6mm; Height: 0.3mm; Width: 0.012inch; Thickness: 0.013inch; Depth: 0.3mm; Radiation Hardening: No; Lead Free: Lead Free; ComponentLink2URL: https://datasheet.ciiva.com/16355/cl03a104kq3nnnc-16355155.pdf?src-supplier=Future+Electronics; ComponentLink2Description: https://datasheet.ciiva.com/16355/cl03a104kq3nnnc-16355155.pdf?src-supplier=Future+Electronics; ComponentLink3URL: https://datasheet.ciiva.com/15195/getdatasheetpartid-355266-15195551.pdf?src-supplier=Verical; ComponentLink3Description: https://datasheet.ciiva.com/15195/getdatasheetpartid-355266-15195551.pdf?src-supplier=Verical; ComponentLink4URL: https://datasheet.ciiva.com/26309/mlcc-catalogdownload2013-eng-26309017.pdf?src-supplier=Distrelec; ComponentLink4Description: https://datasheet.ciiva.com/26309/mlcc-catalogdownload2013-eng-26309017.pdf?src-supplier=Distrelec
footprint 0603 CHIP-CAP C
pins: 1, 2

## CAP C 100nF 0603 25V
designator C?, comment Ozdisan  Capacitance: 100nF
MLCC (0603) 0201 100nF 25VDC ±10% X5R; Manufacturer: Samsung; Manufacturer Part Number: CL03A104KA3NNNC; Voltage Rating: 25V; ComponentLink1Description: OZDISAN- Supplier Link; ComponentLink1URL: https://www.ozdisan.com/passive-components/capacitors/smt-smd-and-mlcc-capacitors/CL03A104KA3NNNC; RoHS: Yes; Mount: Surface Mount; Case/Package: 0201; Case Code (Imperial): 0201; Case Code (Metric): 0603; Min Operating Temperature: -55°C; Max Operating Temperature: 85°C; Dielectric: X5R; Tolerance: 10%; Package Quantity: 1; Packaging: Tape and Reel; Voltage Rating (DC): 25V; Length: 0.024inch; Width: 0.012inch; Thickness: 0.013inch; Lead Free: Lead Free; ComponentLink2URL: https://datasheet.ciiva.com/16396/cl03a104ka3nnnc-16396963.pdf?src-supplier=Future+Electronics; ComponentLink2Description: https://datasheet.ciiva.com/16396/cl03a104ka3nnnc-16396963.pdf?src-supplier=Future+Electronics; ComponentLink3URL: https://datasheet.ciiva.com/25727/cl03a104ka3nnnc-25727987.pdf?src-supplier=Digi-Key; ComponentLink3Description: https://datasheet.ciiva.com/25727/cl03a104ka3nnnc-25727987.pdf?src-supplier=Digi-Key; Supplier Part Number 1: CL03A104KA3NNNC; Supplier 1: Ozdisan
footprint 0603 CHIP-CAP C
pins: 1, 2

## CAP C 100nF 0603 50V
designator C?, comment Ozdisan  Capacitance: 100nF
MLCC (1608) 0603 100nF 50VDC ±10% X7R; Manufacturer: Murata; Manufacturer Part Number: GRM188R71H104KA93D; Dielectric Material: Ceramic; Voltage Rating: 50V; Insulation Resistance: 10GR; Case Code (Metric): 1608; Lead Free: LeadFree; Depth: 0.8mm; Number of Pins: 2; Radiation Hardening: No; Case/Package: 0603; Manufacturer URL: http://www.murata.com/; Packaging: TapeandReel; Length: 1.6mm; Contact Plating: Tin; Datasheet URL: http://psearch.en.murata.com/capacitor/product/GRM188R71H104KA93%23.pdf; Tolerance: 10%; Case Code (Imperial): 0603; Min Operating Temperature: -55degC; RoHSCompliant: true; Voltage: 50V; Termination: SMD/SMT; Mount: SurfaceMount; Material: Ceramic; Package Quantity: 1; Dielectric: X7R; Height: 0.8mm; Thickness: 0.035inch; REACH SVHC: NoSVHC; Max Operating Temperature: 125degC; Width: 0.8mm; Package Reference: 0603; Voltage Rating (DC): 50V; Datasheet Version: 42675.0; Package Description: 2-Pin Surface Mount Device, Body 1.6 x 0.8 mm; Supplier 1: Ozdisan; RoHS: Yes; Category: Ceramic Capacitors; ComponentLink1URL: https://datasheet.ciiva.com/19467/1857604-19467681.pdf?src-supplier=Jameco; ComponentLink1Description: https://datasheet.ciiva.com/19467/1857604-19467681.pdf?src-supplier=Jameco; ComponentLink2URL: https://datasheet.ciiva.com/11786/0900766b807a1cab-11786047.pdf?src-supplier=RSComponents; ComponentLink2Description: https://datasheet.ciiva.com/11786/0900766b807a1cab-11786047.pdf?src-supplier=RSComponents; ComponentLink3URL: https://datasheet.ciiva.com/29201/451744-da-01-en-vs-kondensator-0603-29201904.pdf?src-supplier=Conrad; ComponentLink3Description: https://datasheet.ciiva.com/29201/451744-da-01-en-vs-kondensator-0603-29201904.pdf?src-supplier=Conrad; ComponentLink4URL: https://datasheet.ciiva.com/28534/4360-28534245.pdf?src-supplier=Element14; ComponentLink4Description: https://datasheet.ciiva.com/28534/4360-28534245.pdf?src-supplier=Element14; ComponentLink5URL: https://datasheet.ciiva.com/131/partnumbering-e-01-131738.pdf?src-supplier=Digi-Key; ComponentLink5Description: https://datasheet.ciiva.com/131/partnumbering-e-01-131738.pdf?src-supplier=Digi-Key; ComponentLink6URL: https://datasheet.ciiva.com/7937/1747470-7937658.pdf?src-supplier=Element14; ComponentLink6Description: https://datasheet.ciiva.com/7937/1747470-7937658.pdf?src-supplier=Element14; ComponentLink7URL: https://datasheet.ciiva.com/14116/nmgrm-data-en-14116602.pdf?src-supplier=Distrelec; ComponentLink7Description: https://datasheet.ciiva.com/14116/nmgrm-data-en-14116602.pdf?src-supplier=Distrelec; ComponentLink8URL: https://datasheet.ciiva.com/131/partnumbering-e-01-131739.pdf?src-supplier=Digi-Key; ComponentLink8Description: https://datasheet.ciiva.com/131/partnumbering-e-01-131739.pdf?src-supplier=Digi-Key; ComponentLink9URL: https://datasheet.ciiva.com/7937/4360-7937659.pdf?src-supplier=Element14; ComponentLink9Description: https://datasheet.ciiva.com/7937/4360-7937659.pdf?src-supplier=Element14; ComponentLink10URL: https://datasheet.ciiva.com/48436/nmgrm-data-en-48436667.pdf?src-supplier=Distrelec; ComponentLink10Description: https://datasheet.ciiva.com/48436/nmgrm-data-en-48436667.pdf?src-supplier=Distrelec; ComponentLink11URL: https://datasheet.ciiva.com/131/partnumbering-e-01-131740.pdf?src-supplier=Digi-Key; ComponentLink11Description: https://datasheet.ciiva.com/131/partnumbering-e-01-131740.pdf?src-supplier=Digi-Key; ComponentLink12Description: OZDISAN-Supplier Link; ComponentLink12URL: https://www.ozdisan.com/Product/Detail/423397/GRM188R71H104KA93D; Supplier Part Number 1: GRM188R71H104KA93D
footprint 0603 CHIP-CAP C
pins: 1, 2

## CAP C 100nF 0805 50V
designator C?, comment Ozdisan  Capacitance: 100nF
MLCC (2012) 0805 100nF 50VDC ±5% X7R; Manufacturer: Samsung; Manufacturer Part Number: CL21B104JBCNNNC; Material: Ceramic; Voltage: 50V; ComponentLink1Description: OZDISAN-Supplier Link; ComponentLink1URL: https://www.ozdisan.com/Product/Detail/353898/CL21B104JBCNNNC; Supplier 1: Ozdisan; RoHS: Yes; Mount: Surface Mount; Case/Package: 0805; Contact Plating: Tin; Case Code (Metric): 2012; Case Code (Imperial): 0805; Min Operating Temperature: -55°C; Max Operating Temperature: 125°C; Dielectric: X7R; Tolerance: 5%; Package Quantity: 1; Packaging: Tape and Reel; Voltage Rating: 50V; Length: 2mm; Height: 0.85mm; Depth: 1.25mm; Thickness: 0.037inch; Width: 0.049inch; Radiation Hardening: No; ComponentLink2URL: https://datasheet.ciiva.com/25799/cl21b104jbcnnnc-25799232.pdf?src-supplier=Digi-Key; ComponentLink2Description: https://datasheet.ciiva.com/25799/cl21b104jbcnnnc-25799232.pdf?src-supplier=Digi-Key; ComponentLink3URL: https://datasheet.ciiva.com/26838/getdatasheetpartid-354073-26838656.pdf?src-supplier=Verical; ComponentLink3Description: https://datasheet.ciiva.com/26838/getdatasheetpartid-354073-26838656.pdf?src-supplier=Verical; ComponentLink4URL: https://datasheet.ciiva.com/29199/454108-da-01-en-vs-kondensator-0805-29199802.pdf?src-supplier=Conrad; ComponentLink4Description: https://datasheet.ciiva.com/29199/454108-da-01-en-vs-kondensator-0805-29199802.pdf?src-supplier=Conrad; ComponentLink5URL: https://datasheet.ciiva.com/16508/hsm00000015872757-16508637.pdf?src-supplier=Future+Electronics; ComponentLink5Description: https://datasheet.ciiva.com/16508/hsm00000015872757-16508637.pdf?src-supplier=Future+Electronics; Supplier Part Number 1: CL21B104JBCNNNC
footprint 0805 CHIP-CAP C
pins: 1, 2

## CAP Polarized (General)
designator C?
pins: 1, 2